# Altium schematic symbol library BHK_Sch_Devices.SchLib: 2 symbols
Pins are listed as number, name and electrical type; pins without a type are passive.

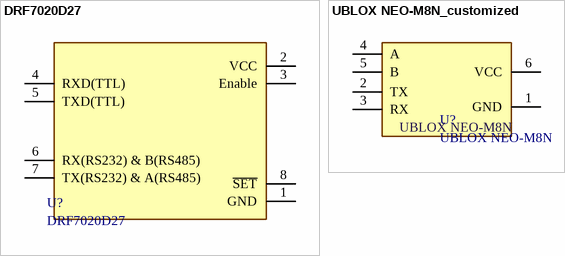
[diagram p0: symbols DRF7020D27 to UBLOX NEO-M8N_customized]

## DRF7020D27
designator U?
DRF7020D27 is a low-cost sub-1 GHz transceiver module; BHK_SUB_Group: RF; BHK_NC: NO; BHK_Group: Module; BHK_Name: DRF7020D27
footprint DRF7020D27
pins: 1 GND, 2 VCC, 3 Enable, 4 RXD(TTL), 5 TXD(TTL), 6 RX(RS232) & B(RS485), 7 TX(RS232) & A(RS485), 8 ~{SET}

## UBLOX NEO-M8N_customized
designator U?, comment UBLOX NEO-M8N
BHK_Group: Module; BHK_SUB_Group: GPS; BHK_NC: NO; BHK_Name: UBLOX NEO-M8N
footprint UBLOX NEO-M8N - customized
pins: 1 GND, 2 TX, 3 RX, 4 A, 5 B, 6 VCC